# Altium schematic symbol library SpeakerAmpSchLib.SchLib: 9 symbols
Pins are listed as number, name and electrical type; pins without a type are passive.

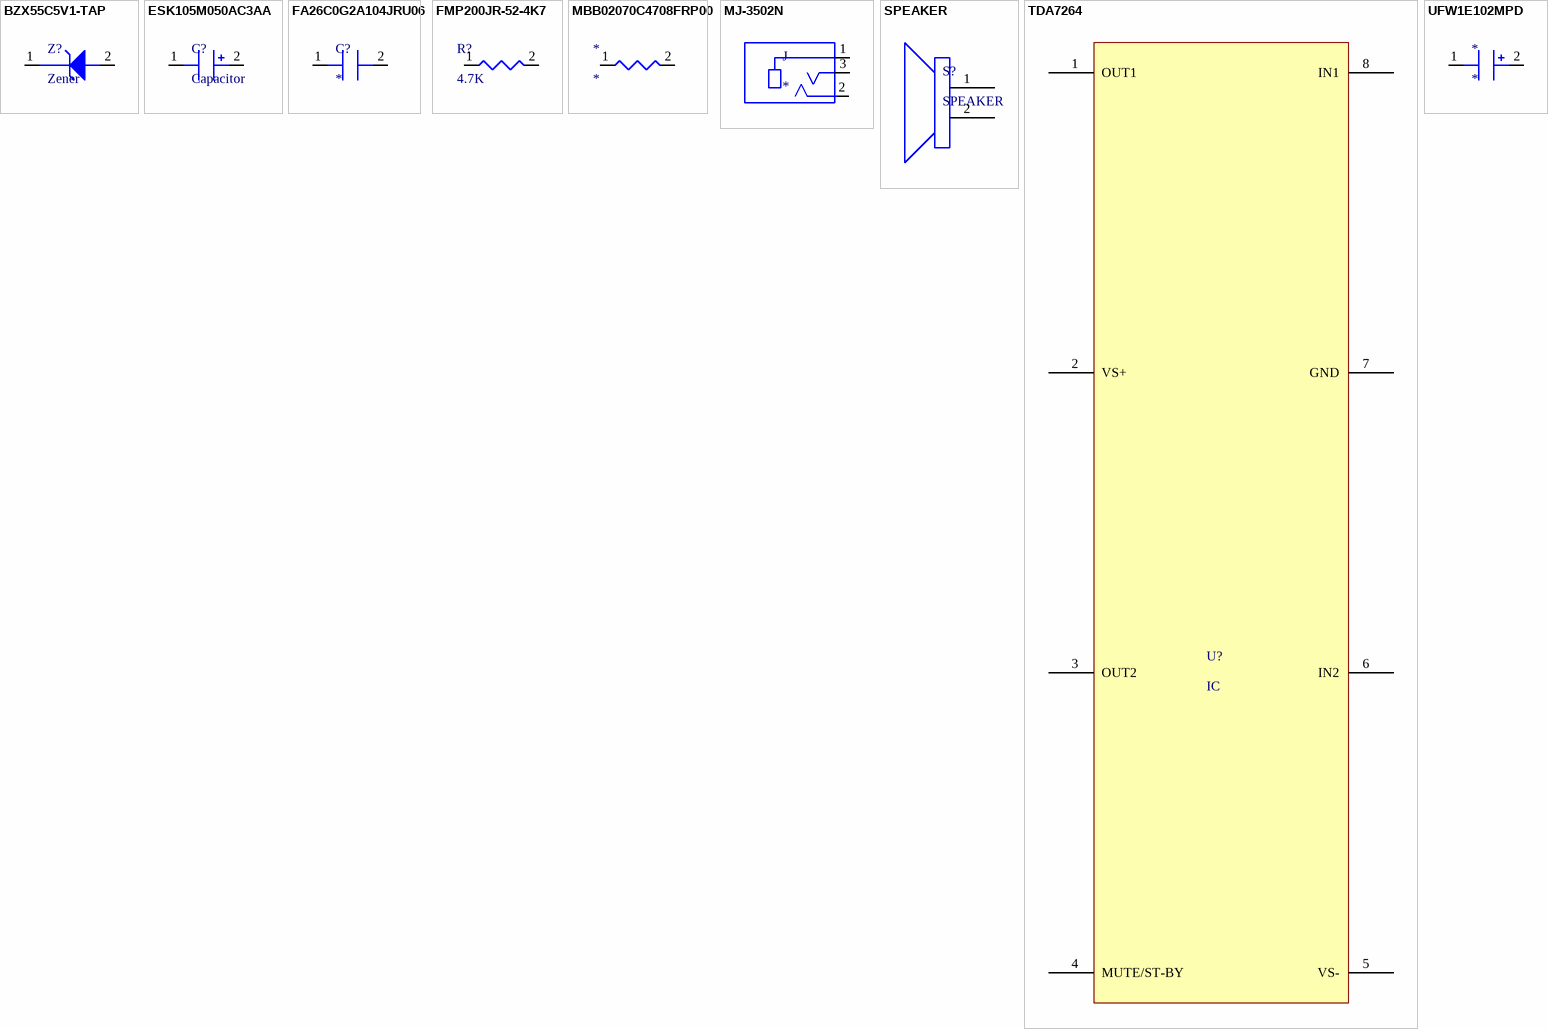
[diagram p0: symbols BZX55C5V1-TAP to UFW1E102MPD]

## BZX55C5V1-TAP
designator Z?, comment Zener
Vishay BZX55C5V1-TAP Zener Diode, 5.1V 6% 0.5 W Through Hole 2-Pin DO-35; Breakdown Voltage: 5.4V; Max Reverse Leakage Current: 100nA; Impedance: 100R; Test Current: 5mA; Max Power Dissipation: 500mW; Element Configuration: Single; ESD Protection: No; Supplier 1: Digi-Key; Supplier Part Number 1: BZX55C5V1-TAPGICT-ND; Manufacturer: Vishay; Manufacturer Part Number: BZX55C5V1-TAP; RoHS: Yes; Category: Zener Diodes; Stock 1: 15308; Pricing 1: 1=0.19000, 10=0.13200, 100=0.07150, 500=0.05616, 1000=0.03900, 2000=0.03231, 5000=0.03055 (USD); Mount: Through Hole; Number of Pins: 2; Contact Plating: Tin,Silver; Min Operating Temperature: -65°C; Max Operating Temperature: 175°C; Zener Voltage: 5.1V; Packaging: Ammo Pack; Power Dissipation: 500mW; Voltage Tolerance: 6%; Package Quantity: 30000; Diameter: 1.7mm; Length: 3.9mm; Radiation Hardening: No; Lead Free: Lead Free; REACH SVHC: Unknown; ComponentLink1URL: https://datasheet.ciiva.com/15142/getdatasheetpartid-84692-15142491.pdf?src-supplier=Verical; ComponentLink1Description: https://datasheet.ciiva.com/15142/getdatasheetpartid-84692-15142491.pdf?src-supplier=Verical; ComponentLink2URL: https://datasheet.ciiva.com/10634/bzx55-se-10634312.pdf?src-supplier=Avnet; ComponentLink2Description: https://datasheet.ciiva.com/10634/bzx55-se-10634312.pdf?src-supplier=Avnet
footprint MBB_VIS
pins: 1, 2

## ESK105M050AC3AA
designator C?, comment Capacitor
Cap Aluminum 1uF 50V 20% (5 X 11mm) Radial Aluminum Cylindrical Can 2mm 10mA 2000 hr 85°C Bulk; Manufacturer: KEMET; Manufacturer Part Number: ESK105M050AC3AA; Polarity: Polar; Life (Hours): 2000Hour; Dissipation Factor: 10%; Supplier 1: Digi-Key; Supplier Part Number 1: 399-6596-ND; RoHS: Yes; Category: Aluminum Electrolytic Capacitors; Stock 1: 84758; Pricing 1: 1=0.17000, 10=0.12000, 25=0.08800, 50=0.06840, 100=0.05660, 250=0.04688, 500=0.03972, 750=0.03580, 4000=0.02799 (USD); Mount: Through Hole; Case/Package: Radial; Min Operating Temperature: -40°C; Max Operating Temperature: 85°C; Termination: Radial; Capacitance: 1uF; Tolerance: 20%; Ripple Current: 10mA; Package Quantity: 10000; Voltage Rating: 50V; Packaging: Bulk; Voltage Rating (DC): 50V; Diameter: 5mm; Length: 11mm; Height: 11mm; Lead Pitch: 2mm; Height - Seated (Max): 0.492inch; Radiation Hardening: No; REACH SVHC: No SVHC; ComponentLink1URL: https://datasheet.ciiva.com/22627/1500292-22627197.pdf?src-supplier=Farnell; ComponentLink1Description: https://datasheet.ciiva.com/22627/1500292-22627197.pdf?src-supplier=Farnell; ComponentLink2URL: https://datasheet.ciiva.com/22621/1500292-22621006.pdf?src-supplier=Element14; ComponentLink2Description: https://datasheet.ciiva.com/22621/1500292-22621006.pdf?src-supplier=Element14
footprint 1UFC
pins: 1 22, 2 23

## FA26C0G2A104JRU06
designator C?
Cap Ceramic 0.1uF 100V C0G 5% Radial 5mm 125°C Automotive Ammo; Manufacturer: TDK; Manufacturer Part Number: FA26C0G2A104JRU06; Supplier 1: Digi-Key; Supplier Part Number 1: 445-175399-1-ND; RoHS: No; Stock 1: 3509; Pricing 1: 1=1.20000, 10=0.94500, 50=0.81900, 100=0.70880, 500=0.53550, 1000=0.47250 (USD)
footprint 0.1UFC
pins: 1 22, 2 23

## FMP200JR-52-4K7
designator R?, comment 4.7K
RES 4.7K OHM 2W 5% AXIAL; Manufacturer: Yageo; Manufacturer Part Number: FMP200JR-52-4K7; Resistance: 4.7kR; Supplier 1: Digi-Key; Supplier Part Number 1: 4.7KZCT-ND; RoHS: Yes; Category: Through-Hole Resistors; Stock 1: 609; Pricing 1: 1=0.31000, 10=0.26000, 25=0.18920, 50=0.13720, 100=0.10170, 250=0.07800, 500=0.06146, 1000=0.04255 (USD); Case/Package: Axial; Min Operating Temperature: -55°C; Max Operating Temperature: 155°C; Max Power Dissipation: 2W; Resistor Type: Metal Film; Number of Terminations: 2; Package Quantity: 1; Tolerance: 5%; Packaging: Tape and Reel; Length: 0.354inch; Lead Free: Lead Free; ComponentLink1URL: https://datasheet.ciiva.com/2710/yageolr-fmp-2013-2710730.pdf?src-supplier=Digi-Key; ComponentLink1Description: https://datasheet.ciiva.com/2710/yageolr-fmp-2013-2710730.pdf?src-supplier=Digi-Key; ComponentLink2URL: https://datasheet.ciiva.com/2710/yageolr-fmp-2013-2710731.pdf?src-supplier=Digi-Key; ComponentLink2Description: https://datasheet.ciiva.com/2710/yageolr-fmp-2013-2710731.pdf?src-supplier=Digi-Key
footprint MBB_VIS
pins: 1, 2

## MBB02070C4708FRP00
designator *
RES 4.7 OHM 0.6W 1% AXIAL; Manufacturer: Vishay BCcomponents; Manufacturer Part Number: MBB02070C4708FRP00; Max Power Dissipation: 600mW; Temperature Coefficient: 50ppm/°C; Resistance: 4.7R; Supplier 1: Digi-Key; Supplier Part Number 1: BC4.70ZCT-ND; RoHS: Yes; Category: Through-Hole Resistors; Stock 1: 7417; Pricing 1: 1=0.29000, 10=0.24200, 100=0.09460, 1000=0.03960, 2500=0.03630 (USD); Mount: Through Hole; Case/Package: Axial; Contact Plating: Tin; Min Operating Temperature: -55°C; Max Operating Temperature: 155°C; Resistor Type: Thin Film; Tolerance: 1%; Package Quantity: 1; Packaging: Tape and Reel; Number of Terminations: 2; Diameter: 2.5mm; Length: 0.256inch; Radiation Hardening: No; Lead Free: Lead Free; ComponentLink1URL: https://datasheet.ciiva.com/2711/mbxsma-2711529.pdf?src-supplier=Digi-Key; ComponentLink1Description: https://datasheet.ciiva.com/2711/mbxsma-2711529.pdf?src-supplier=Digi-Key; ComponentLink2URL: https://datasheet.ciiva.com/2711/mbxsma-2711530.pdf?src-supplier=Digi-Key; ComponentLink2Description: https://datasheet.ciiva.com/2711/mbxsma-2711530.pdf?src-supplier=Digi-Key
footprint MBB_VIS
pins: 1, 2

## MJ-3502N
designator J
3.5 mm, Mono, Right Angle, Through Hole, Audio Jack Connector; MF: CUI Devices; MP: MJ-3502N; SnapEDA_Link: https://www.snapeda.com/parts/MJ-3502N/CUI%20Devices/view-part/576115/?ref=snap; Price: None; Value: *; Availability: Unavailable; Package: None; CUI_purchase_URL: https://www.cuidevices.com/product/interconnect/connectors/audio-connectors/jacks/mj-3502n?utm_source=snapeda.com&utm_medium=referral&utm_campaign=snapedaBOM
footprint CUI_MJ-3502N
pins: 1, 2, 3

## SPEAKER
designator S?
footprint CONNECTION
pins: 1 24, 2 25

## TDA7264
designator U?, comment IC
Audio Amplifiers 25W Stereo Amplifier; Manufacturer: STMicroelectronics; Manufacturer Part Number: TDA7264; Voltage Gain: 30dB; Max Dual Supply Voltage: 22.5V; Min Dual Supply Voltage: 5V; Max Power Dissipation: 30W; Nominal Supply Current: 4.5A; Load Impedance: 8R; Power Supply Rejection Ratio (PSRR): 60dB; Quiescent Current: 80mA; Supply Type: Dual; Dual Supply Voltage: 18V; Number of Channels: 2; Supplier 1: Digi-Key; RoHS: Yes; Category: Amplifiers - Audio; Stock 1: 535; Pricing 1: 1=3.89000, 10=3.49600, 25=3.30520, 100=2.71770, 250=2.43856, 500=2.35040, 1000=1.95377, 2500=1.88032, 5000=1.82156 (USD); Mount: Through Hole; Number of Pins: 8; Min Operating Temperature: -40°C; Max Operating Temperature: 150°C; Max Output Power: 25W; Gain: 30dB; Power Dissipation: 30W; Max Supply Voltage: 22.5V; Packaging: Rail/Tube; Output Power: 25W; Package Quantity: 25; Length: 19.6mm; Width: 5mm; Height: 10.7mm; Radiation Hardening: No; Lead Free: Lead Free; REACH SVHC: No SVHC; ComponentLink1URL: https://datasheet.ciiva.com/17307/cd00000144-17307846.pdf?src-supplier=Avnet+Europe; ComponentLink1Description: https://datasheet.ciiva.com/17307/cd00000144-17307846.pdf?src-supplier=Avnet+Europe; ComponentLink2URL: https://datasheet.ciiva.com/16367/cd00000144-16367064.pdf?src-supplier=Future+Electronics; ComponentLink2Description: https://datasheet.ciiva.com/16367/cd00000144-16367064.pdf?src-supplier=Future+Electronics; ComponentLink3URL: https://datasheet.ciiva.com/4767/cd00000144-102330-4767503.pdf?src-supplier=Mouser; ComponentLink3Description: https://datasheet.ciiva.com/4767/cd00000144-102330-4767503.pdf?src-supplier=Mouser; ComponentLink4URL: https://datasheet.ciiva.com/26842/tda7264-26842670.pdf?src-supplier=IIIC; ComponentLink4Description: https://datasheet.ciiva.com/26842/tda7264-26842670.pdf?src-supplier=IIIC; ComponentLink5URL: https://datasheet.ciiva.com/1481/1690491-1481771.pdf?src-supplier=Element14; ComponentLink5Description: https://datasheet.ciiva.com/1481/1690491-1481771.pdf?src-supplier=Element14; Supplier Part Number 1: 497-3959-5-ND
footprint Multiwatt8_STM
pins: 1 OUT1, 2 VS+, 3 OUT2, 4 MUTE/ST-BY, 5 VS-, 6 IN2, 7 GND, 8 IN1

## UFW1E102MPD
designator *
CAP ALUM 1000UF 20% 25V RADIAL; Manufacturer: Nichicon; Manufacturer Part Number: UFW1E102MPD; Life (Hours): 2000Hour; Capacitance: 1mF; Ripple Current: 950mA; Leakage Current: 750uA; Dissipation Factor: 0.16%; Supplier 1: Digi-Key; Supplier Part Number 1: 493-15126-ND; RoHS: Yes; Category: Aluminum Electrolytic Capacitors; Stock 1: 1288; Pricing 1: 1=0.65000, 10=0.48200, 50=0.38580, 100=0.33060, 500=0.26174, 1000=0.22042, 2500=0.20664, 5000=0.19286 (USD); Mount: Through Hole; Case/Package: Radial; Min Operating Temperature: -40°C; Max Operating Temperature: 85°C; Package Quantity: 200; Voltage Rating: 25V; Tolerance: 20%; Packaging: Bulk; Termination: Radial; Voltage Rating (DC): 25V; Length: 20mm; Lead Pitch: 0.197inch; Height - Seated (Max): 0.787inch; ComponentLink1URL: https://datasheet.ciiva.com/113/e-fw-113781.pdf?src-supplier=Digi-Key; ComponentLink1Description: https://datasheet.ciiva.com/113/e-fw-113781.pdf?src-supplier=Digi-Key
footprint 1000UFC
pins: 1 22, 2 23